# Altium schematic symbol library DRV8830DGQR.SchLib: 1 symbol
Pins are listed as number, name and electrical type; pins without a type are passive.

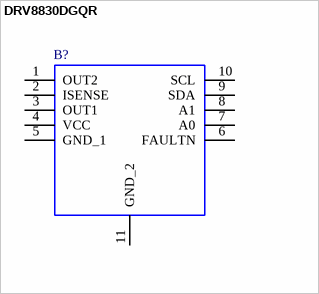
[diagram p0: symbol DRV8830DGQR]

## DRV8830DGQR
designator B?
DRV8830DGQR, Motor Driver, 1A Low Voltage Motor Driver, 2.75 to 6.8V, 10-Pin MSOP PowerPAD; Manufacturer_Name: Texas Instruments; Geometry.Height: 1.1mm; Manufacturer_Part_Number: DRV8830DGQR; Mouser Part Number: 595-DRV8830DGQR; Mouser Price/Stock: https://www.mouser.co.uk/ProductDetail/Texas-Instruments/DRV8830DGQR?qs=O1HRStiETCg6%2F8Csne%2FSsw%3D%3D; Arrow Part Number: DRV8830DGQR; Arrow Price/Stock: https://www.arrow.com/en/products/drv8830dgqr/texas-instruments; Mouser Testing Part Number: *; Mouser Testing Price/Stock: *; Datasheet Link: http://www.ti.com/lit/ds/symlink/drv8830.pdf
footprint SOP50P490X110-11N
pins: 1 OUT2, 2 ISENSE, 3 OUT1, 4 VCC, 5 GND_1, 6 FAULTN, 7 A0, 8 A1, 9 SDA, 10 SCL, 11 GND_2